# Altium schematic symbol library bourns-potentiometers.SchLib: 1 symbol
Pins are listed as number, name and electrical type; pins without a type are passive.

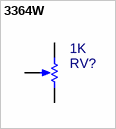
[diagram p0: symbol 3364W]

## 3364W
designator RV?  value 1K  (hidden comment: *)
4mm Square Trimpot - Trimming Potentiometer; package: 3364W; PN: *; ExtraInfo: *
footprint 3364W (4mm Square Trimpot)
pins: 1, 2, 3